# EAGLE library part MICROSD (library superusuario-Modules)
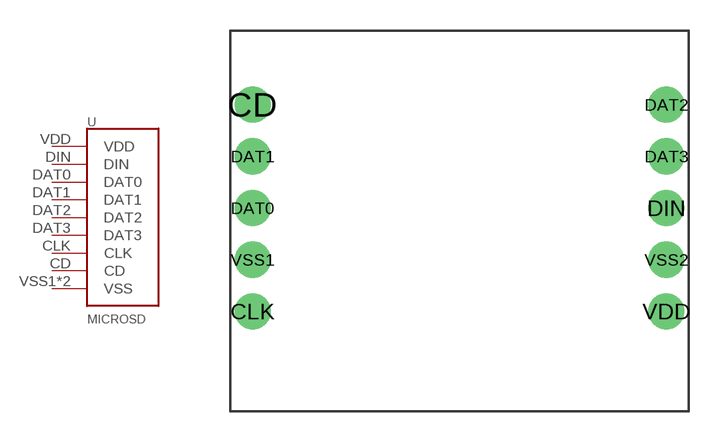
[diagram p0: symbol with the pads of MICROSD; footprint MICROSD]

Designator prefix -

## MICROSD  [MICROSD]
CD  CD
CLK  CLK
DAT0  DAT0
DAT1  DAT1
DAT2  DAT2
DAT3  DAT3
DIN  DIN
VDD  VDD
VSS1  VSS
VSS2  VSS

## Footprint MICROSD (pad centres in mm)
drill 1.016 pad 1.778: CD -10.16,5.08; CLK -10.16,-5.08; DAT0 -10.16,0; DAT1 -10.16,2.54; DAT2 10.16,5.08; DAT3 10.16,2.54; DIN 10.16,0; VDD 10.16,-5.08; VSS1 -10.16,-2.54; VSS2 10.16,-2.54